# Altium schematic symbol library Trans_Vishay_IRF540PBF_eec.SchLib: 1 symbol
Pins are listed as number, name and electrical type; pins without a type are passive.

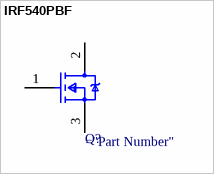
[diagram p0: symbol IRF540PBF]

## IRF540PBF
designator Q?  (value not drawn)
footprint Infineon_TO-220AB_0
pins: 1 G, 2 D, 3 S